# Altium footprint library EE_smallOB_BW_v1.0.PcbLib: 38 footprints (part 3 of 3)
Each footprint in its own frame and in the unit in brackets; x right, y up, seen from the top. Pads: shape width x height; smd on the part's side, far side on the other; paste and mask are expansions set on the pad; w line width, h text height; cw(c..) or ccw(c..) is an arc to the next point about the centre after c.
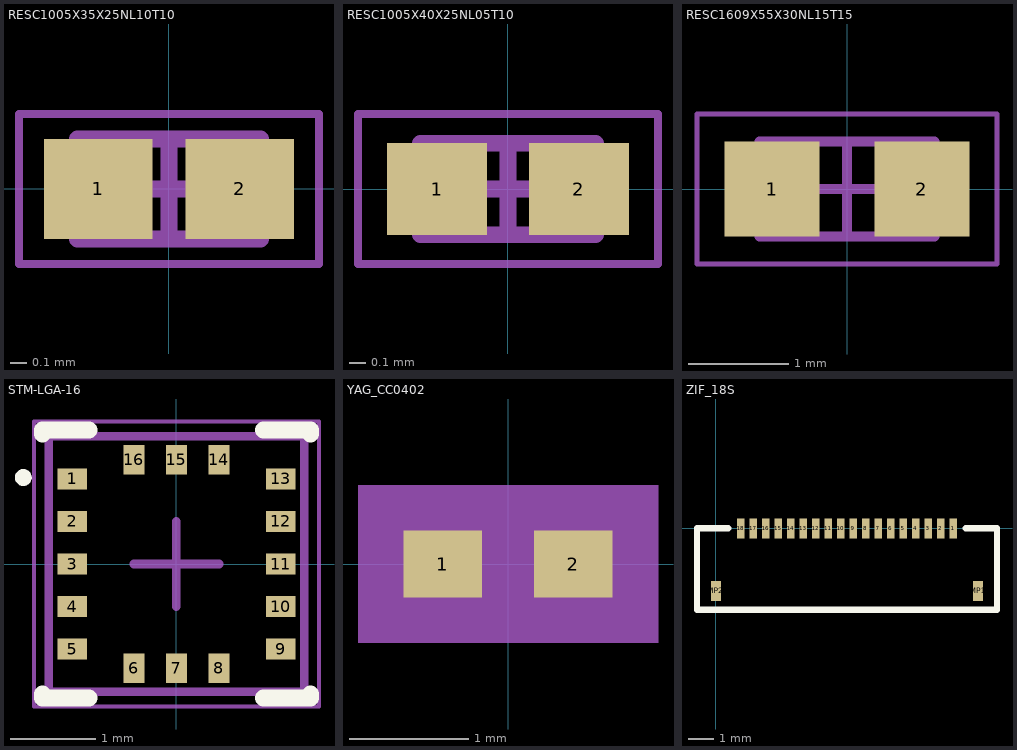
[diagram p2: the footprints below, top view; thin cyan lines are the x and y axes]

## RESC1005X35X25NL10T10 [mm] "Chip Resistor, 2-Leads, Body 1.00x0.50mm, IPC Medium Density"
height 0.35
pads (2):
  rect 0.65x0.6 smd: 1(-0.425,0) 2(0.425,0)
Mechanical 13:
  lines w0.1: -0.55,-0.3 -0.55,0.3 0.55,0.3 0.55,-0.3 -0.55,-0.3
Mechanical 15:
  lines w0.05: -0.9,-0.45 -0.9,0.45 0.9,0.45 0.9,-0.45 -0.9,-0.45
  lines w0.1: -0.3,0 0.3,0 ; 0,-0.3 0,0.3
3D body: height 0.35, standoff 0, extent -0.3,-0.3 0.3,0.3
3D body: height 0.35, standoff 0, extent -0.55,-0.3 -0.3,0.3
3D body: height 0.35, standoff 0, extent 0.3,-0.3 0.55,0.3

## RESC1005X40X25NL05T10 [mm] "Chip Resistor, 2-Leads, Body 1.00x0.50mm, IPC Medium Density"
height 0.4
pads (2):
  rect 0.6x0.55 smd: 1(-0.425,0) 2(0.425,0)
Mechanical 13:
  lines w0.1: -0.525,-0.275 -0.525,0.275 0.525,0.275 0.525,-0.275 -0.525,-0.275
Mechanical 15:
  lines w0.05: -0.9,-0.45 -0.9,0.45 0.9,0.45 0.9,-0.45 -0.9,-0.45
  lines w0.1: -0.275,0 0.275,0 ; 0,-0.275 0,0.275
3D body: height 0.4, standoff 0, extent -0.275,-0.275 0.275,0.275
3D body: height 0.4, standoff 0, extent -0.525,-0.275 -0.275,0.275
3D body: height 0.4, standoff 0, extent 0.275,-0.275 0.525,0.275

## RESC1609X55X30NL15T15 [mm] "Chip Resistor, 2-Leads, Body 1.75x0.95mm, IPC Medium Density"
height 0.55
pads (2):
  rect 0.95x0.95 smd: 1(-0.75,0) 2(0.75,0)
Mechanical 13:
  lines w0.1: -0.875,-0.475 0.875,-0.475 0.875,0.475 -0.875,0.475 -0.875,-0.475
Mechanical 15:
  lines w0.05: -1.5,-0.75 1.5,-0.75 1.5,0.75 -1.5,0.75 -1.5,-0.75
  lines w0.1: -0.475,0 0.475,0 ; 0,-0.475 0,0.475
3D body "RESC1608X06N.step": height 0.55, standoff 0, extent -0.875,-0.475 0.875,0.475

## STM-LGA-16 [mm] "LGA, 16-Leads, Body 3x3mm, Pitch 0.5mm"
height 1
pads (16):
  rect 0.35x0.25 smd: 1(-1.225,1) 2(-1.225,0.5) 3(-1.225,0) 4(-1.225,-0.5) 5(-1.225,-1) 9(1.225,-1) 10(1.225,-0.5) 11(1.225,0) 12(1.225,0.5) 13(1.225,1)
  rect 0.25x0.35 smd: 6(-0.5,-1.225) 7(0,-1.225) 8(0.5,-1.225) 14(0.5,1.225) 15(0,1.225) 16(-0.5,1.225)
Top Overlay:
  circle w0.1: c-1.8,1.016 r0.05
  lines w0.2: -1.575,-1.525 -1.575,-1.575 -1.025,-1.575 ; -1.575,1.525 -1.575,1.575 -1.025,1.575 ; 1.025,-1.575 1.575,-1.575 1.575,-1.525 ; 1.025,1.575 1.575,1.575 1.575,1.525
Mechanical 13:
  lines w0.1: -1.5,-1.5 1.5,-1.5 1.5,1.5 -1.5,1.5 -1.5,-1.5
Mechanical 15:
  lines w0.05: -1.675,-1.675 -1.675,1.675 1.675,1.675 1.675,-1.675 -1.675,-1.675
  lines w0.1: -0.5,0 0.5,0 ; 0,-0.5 0,0.5
3D body: height 1, standoff 0, extent -1.5,-1.5 1.5,1.5

## YAG_CC0402 [mil]
pads (2):
  rect 26x22 smd paste+0 mask+0: 1(-21.5,0) 2(21.5,0)
Mechanical 5:
  region: 49.5,-26 -49.5,-26 -49.5,26 49.5,26
Mechanical 13:
  lines w1: -20.5,-11 -20.5,11 ; -20.5,-11 -8.5,-11 -8.5,11 -20.5,11 ; -20.5,-11 20.5,-11 ; -20.5,-11 -20.5,11 ; -20.5,11 20.5,11 ; 20.5,-11 8.5,-11 8.5,11 20.5,11 ; 20.5,-11 20.5,11 ; 20.5,-11 20.5,11
Mechanical 15:
  region: 44.5,-21 -44.5,-21 -44.5,21 44.5,21
  lines w6: -44.5,-21 -44.5,21 44.5,21 44.5,-21 -44.5,-21
3D body: height 10, standoff 0, extent 0,0 10,10
3D body "YAG_CC0402.step": height 22.01, standoff 0, extent -20.51,-10.98 20.52,10.99
3D body "YAG_CC0402.step": height 22.01, standoff 0, extent -20.51,-10.98 20.51,10.99

## ZIF_18S [mm]
pads (20):
  rect 0.3x0.8 smd: 1(9.5,0) 2(9,0) 3(8.5,0) 4(8,0) 5(7.5,0) 6(7,0) 7(6.5,0) 8(6,0) 9(5.5,0) 10(5,0) 11(4.5,0) 12(4,0) 13(3.5,0) 14(3,0) 15(2.5,0) 16(2,0) 17(1.5,0) 18(1,0)
  rect 0.4x0.8 smd: MP1(10.5,-2.5) MP2(0,-2.5)
Top Overlay:
  lines w0.254: 0.5,0 -0.5,0 -0.75,0 -0.75,-3.25 11.25,-3.25 11.25,0 10,0